# Altium schematic symbol library CAP_SMD.SchLib: 2 symbols
Pins are listed as number, name and electrical type; pins without a type are passive.

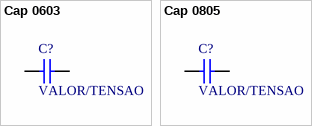
[diagram p0: symbols Cap 0603 to Cap 0805]

## Cap 0603
designator C?, comment VALOR/TENSAO
Capacitor SMD0603; Published: 8-Jun-2000; LatestRevisionDate: 17-Jul-2002; LatestRevisionNote: Re-released for DXP Platform.; PackageReference: SMD 0603; Publisher: Altium Limited; FOOTPRINT: SMD 0603; Value: VALOR/TENSAO
simulation model CAP (Semiconductor Capacitor)
signal-integrity model Cap Semi
footprint CSMD-0603 (Chip Capacitor; Body 1.6 x 0.8 mm (LxW typ))
pins: 1, 2

## Cap 0805
designator C?, comment VALOR/TENSAO
Capacitor SMD0805; Published: 8-Jun-2000; LatestRevisionDate: 15-JAN-2019; LatestRevisionNote: Re-released for DXP Platform.; PackageReference: SMD 0805; Publisher: Altium Limited; FOOTPRINT: SMD 0805; Value: VALOR/TENSAO
simulation model CAP (Semiconductor Capacitor)
signal-integrity model Cap Semi
footprint CSMD-0805 (Chip Resistor; Body 2.0 x 1.3 mm (LxW typ))
pins: 1, 2